# EAGLE library part DF9-9 (library Connectors)
Hirose DF9 Series SMD connector 9-pin DF9 Connector
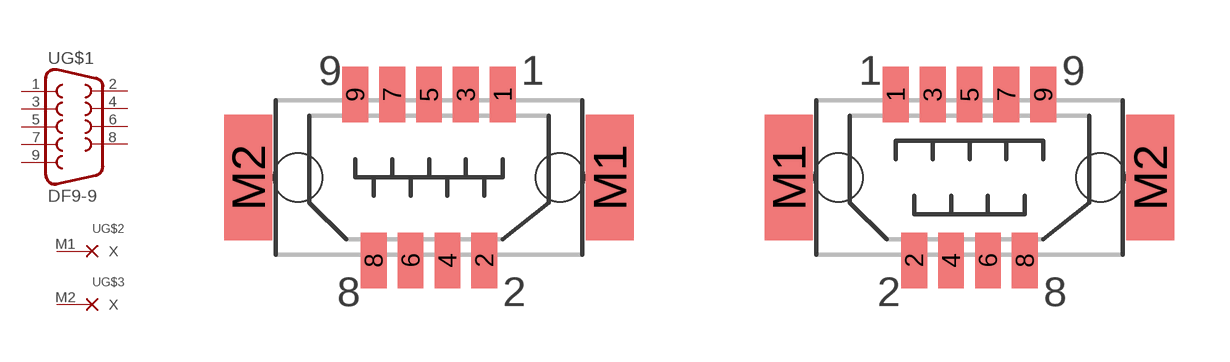
[diagram p2: symbol with the pads of DF9-9P; footprints DF9-9P, DF9-9S]

Designator prefix -; gates G$1=DF9-9 G$2=PIN_NC G$3=PIN_NC

## DF9-9P (DIGIKEY: H10409CT-ND; GENDER: Header; MPN: DF9-9P-1V(32); PINS: 9)  [DF9-9P]
1  G$1:1  pas
2  G$1:2  pas
3  G$1:3  pas
4  G$1:4  pas
5  G$1:5  pas
6  G$1:6  pas
7  G$1:7  pas
8  G$1:8  pas
9  G$1:9  pas
M1  G$2:X  nc
M2  G$3:X  nc

## DF9-9S (DIGIKEY: H10397TR-ND; GENDER: Receptacle; MPN: DF9-9S-1V(32); PINS: 9)  [DF9-9S]
Pads as for DF9-9P

## Footprint DF9-9P (pad centres in mm)
smd 0.7 x 1.5: 1 2,2.25; 2 1.5,-2.25; 3 1,2.25; 4 0.5,-2.25; 5 0,2.25; 6 -0.5,-2.25; 7 -1,2.25; 8 -1.5,-2.25; 9 -2,2.25
smd 1.3 x 3.4: M1 4.9,0; M2 -4.9,0
hole 1.321 at 3.55,0
hole 1.321 at -3.55,0

## Footprint DF9-9S (pad centres in mm)
smd 0.7 x 1.5: 1 -2,2.25; 2 -1.5,-2.25; 3 -1,2.25; 4 -0.5,-2.25; 5 0,2.25; 6 0.5,-2.25; 7 1,2.25; 8 1.5,-2.25; 9 2,2.25
smd 1.3 x 3.4: M1 -4.9,0; M2 4.9,0
hole 1.321 at 3.55,0
hole 1.321 at -3.55,0